# EAGLE library part MODUL8 (library lbm)
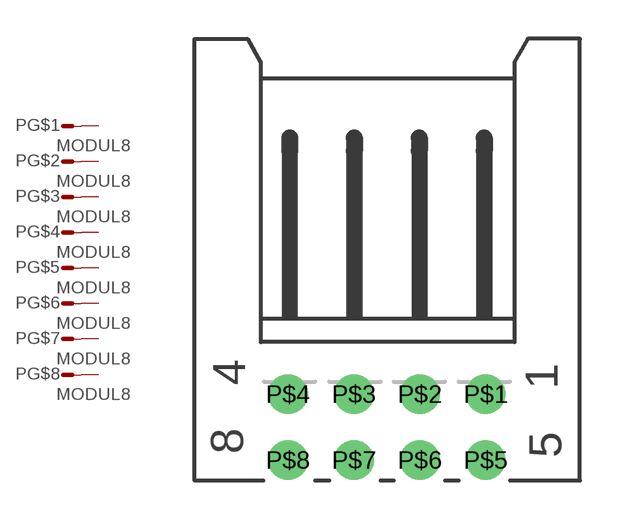
[diagram p37: symbol with the pads of AMP_MODU_4_2; footprint AMP_MODU_4_2]

Designator prefix P; gates G$1=M G$2=M G$3=M G$4=M G$5=M G$6=M G$7=M G$8=M

## MODUL8  [AMP_MODU_4_2]
P$1  G$1:S  pas
P$2  G$2:S  pas
P$3  G$3:S  pas
P$4  G$4:S  pas
P$5  G$5:S  pas
P$6  G$6:S  pas
P$7  G$7:S  pas
P$8  G$8:S  pas

## Footprint AMP_MODU_4_2 (pad centres in mm)
drill 1.016 round: P$1 3.81,-6.35; P$2 1.27,-6.35; P$3 -1.27,-6.35; P$4 -3.81,-6.35; P$5 3.81,-8.89; P$6 1.27,-8.89; P$7 -1.27,-8.89; P$8 -3.81,-8.89